# EAGLE library part AK130/16 (library PTR_AK130)
ANSCHLUSSKLEMME AK130 (16POLIG)
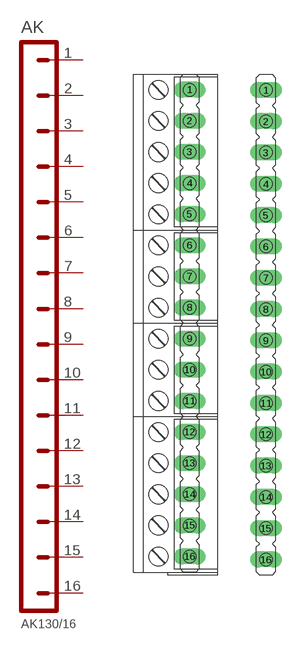
[diagram p10: symbol with the pads of AK16; footprints AK16, STL16]

Designator prefix AK

## AK130/16  [AK16]
1  P$1
2  P$2
3  P$3
4  P$4
5  P$5
6  P$6
7  P$7
8  P$8
9  P$9
10  P$10
11  P$11
12  P$12
13  P$13
14  P$14
15  P$15
16  P$16

## AK130/16_STL  [STL16]
Pads as for AK16

## Footprint AK16 (pad centres in mm)
AK130 (16POLIG) 2x AK130/3-5.0-GRAU 2x AK130/5-5.0-GRAU STL130/24-5.0-V-SCHWARZ
drill 1.5 pad 2.54 long: 1 0,37.5; 2 0,32.5; 3 0,27.5; 4 0,22.5; 5 0,17.5; 6 0,12.5; 7 0,7.5; 8 0,2.5; 9 0,-2.5; 10 0,-7.5; 11 0,-12.5; 12 0,-17.5; 13 0,-22.5; 14 0,-27.5; 15 0,-32.5; 16 0,-37.5

## Footprint STL16 (pad centres in mm)
STL130 (16POLIG) STL130/24-5.0-V-SCHWARZ
drill 1.5 pad 2.54 long: 1 0,37.5; 2 0,32.5; 3 0,27.5; 4 0,22.5; 5 0,17.5; 6 0,12.5; 7 0,7.5; 8 0,2.5; 9 0,-2.5; 10 0,-7.5; 11 0,-12.5; 12 0,-17.5; 13 0,-22.5; 14 0,-27.5; 15 0,-32.5; 16 0,-37.5